# Altium footprint library XY-G485.PcbLib: 1 footprints
Each footprint in its own frame and in the unit in brackets; x right, y up, seen from the top. Pads: shape width x height; smd on the part's side, far side on the other; paste and mask are expansions set on the pad; w line width, h text height; cw(c..) or ccw(c..) is an arc to the next point about the centre after c.
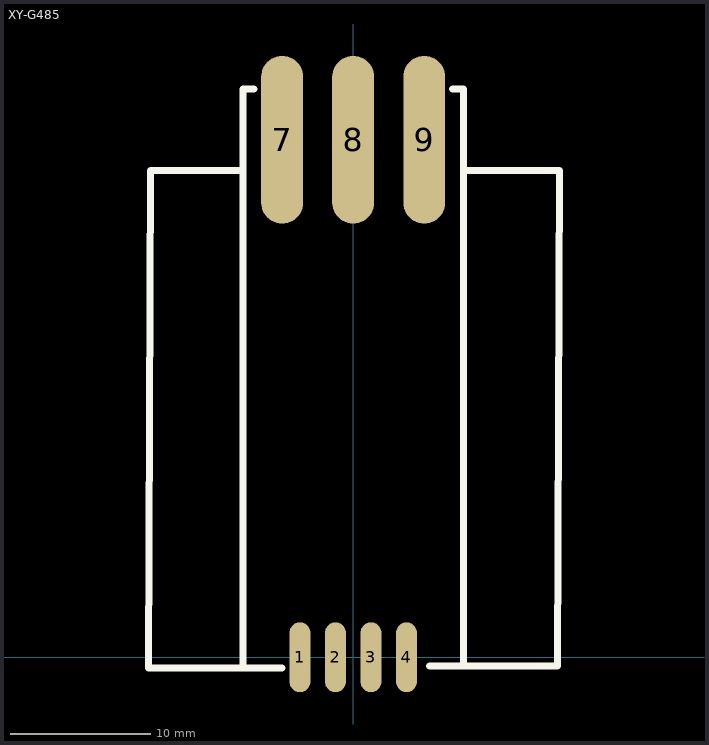
[diagram p0: the footprint, top view; thin cyan lines are the x and y axes]

## XY-G485 [mm]
pads (7):
  oval 1.5x5 smd: 1(-3.81,0) 2(-1.27,0) 3(1.27,0) 4(3.81,0)
  rrect100% 3x12 smd: 7(-5.08,37) 8(0,37) 9(5.08,37)
Top Overlay:
  lines w0.508: -7.874,-0.762 -7.874,40.64 -7.112,40.64 ; -7.874,34.798 -14.502,34.798 -14.623,-0.762 -5.08,-0.762 ; 5.461,-0.635 14.618,-0.635 14.738,34.798 7.874,34.798 ; 7.112,40.64 7.874,40.64 7.874,-0.635